# Altium footprint library EButterflyPcbLib.PcbLib: 106 footprints (part 1 of 7)
Each footprint in its own frame and in the unit in brackets; x right, y up, seen from the top. Pads: shape width x height; smd on the part's side, far side on the other; paste and mask are expansions set on the pad; w line width, h text height; cw(c..) or ccw(c..) is an arc to the next point about the centre after c.
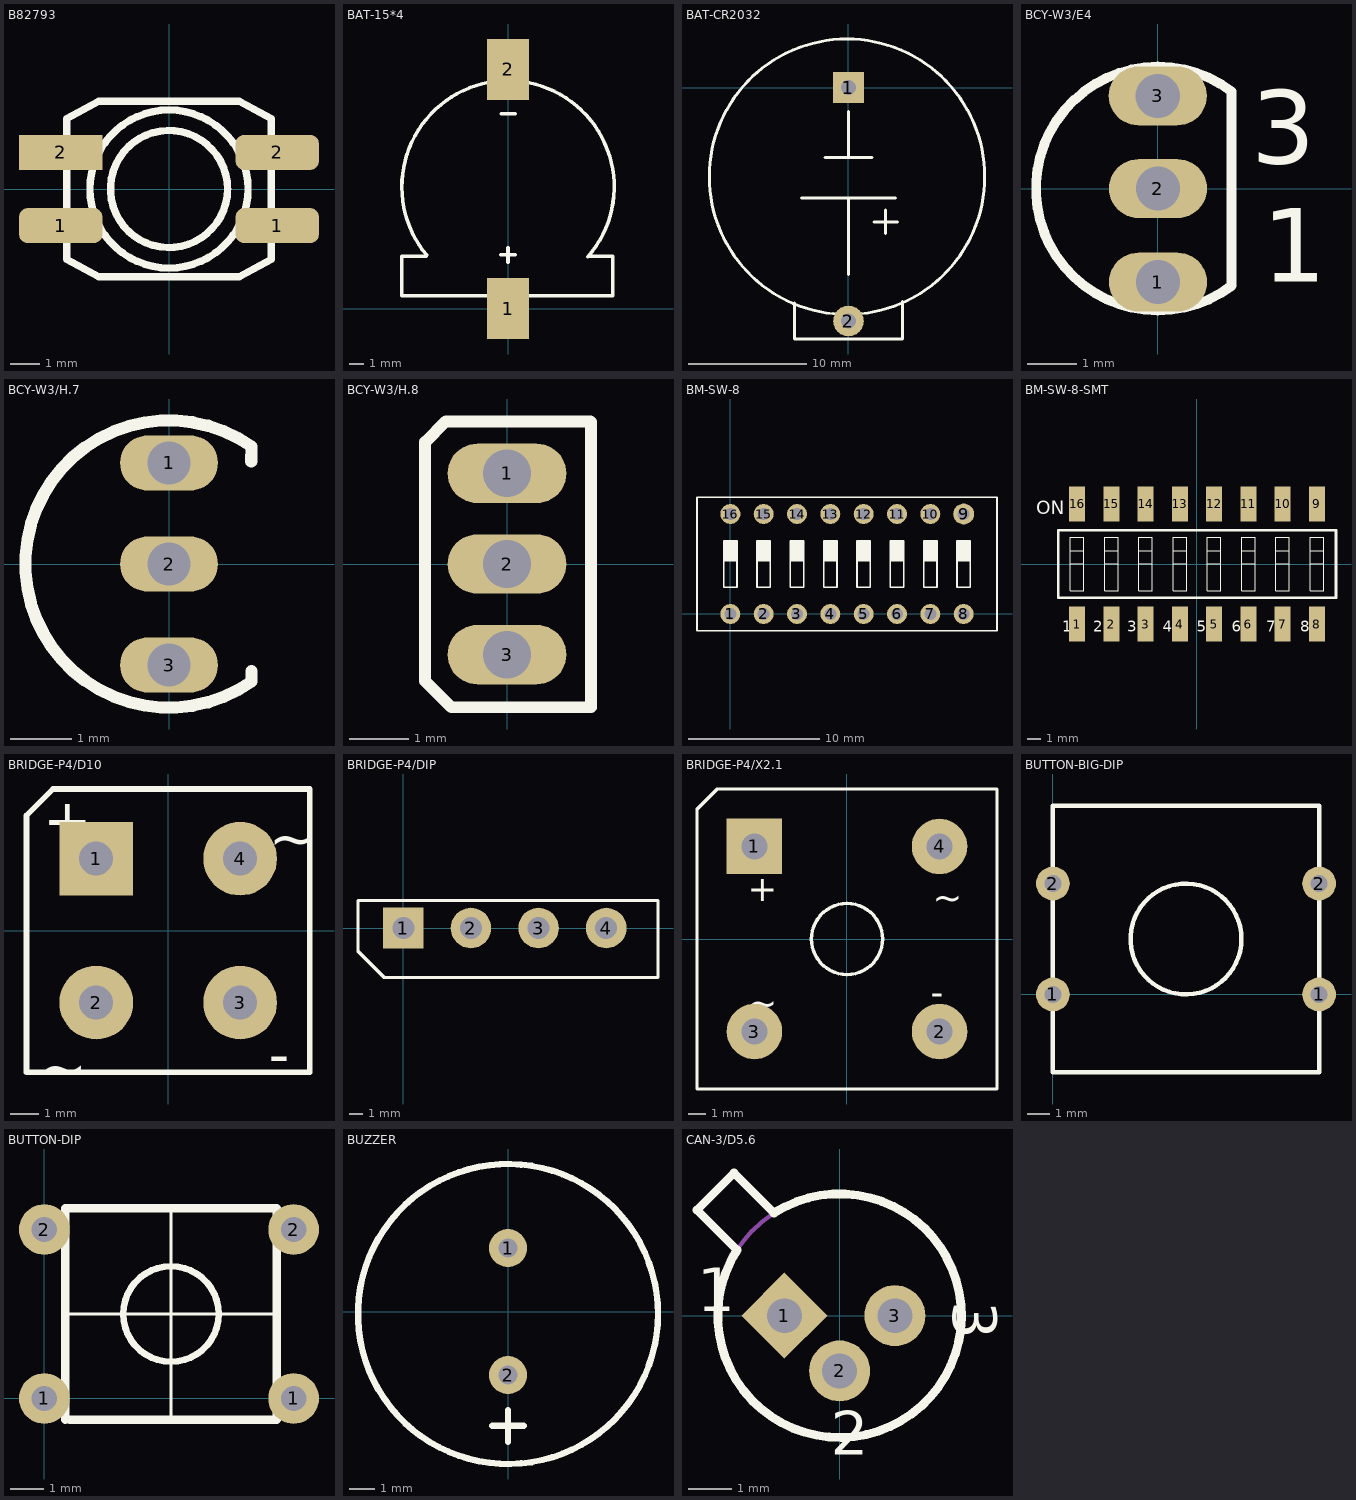
[diagram p0: the footprints below, top view; thin cyan lines are the x and y axes]

## --PIN [mm] "PIN"
3D body "Pin.STEP": height 3, standoff -2, extent -0.746,-0.746 0.746,0.746

## B82793 [mm] "CAN总线滤波器"
height 4.8
pads (4):
  rrect50% 2.85x1.2 smd: 1(-3.7,-1.25) 1(3.7,-1.25) 2(3.7,1.25)
  rect 2.85x1.2 smd: 2(-3.7,1.25)
Top Overlay:
  circle w0.254: c0,0 r2.7
  circle w0.254: c0,0 r2
  lines w0.254: -3.5,-2.4 -2.4,-3 2.4,-3 3.5,-2.4 3.5,2.4 2.4,3 -2.4,3 -3.5,2.4 -3.5,-2.4
3D body: height 4.8, standoff 3, extent -1.999,-1.999 1.999,1.999
3D body: height 3, standoff 2, extent -2.699,-2.699 2.699,2.699
3D body: height 2, standoff 0.5, extent -3.501,-3.001 3.501,3.001

## BAT-15*4 [mm]
pads (2):
  rect 3x4.3 smd: 1(0,0) 2(0,16.9)
Top Overlay:
  lines w0.254: -5.789,3.7 -7.5,3.7 -7.5,0.9 7.4,0.9 7.4,3.7 5.687,3.7 ; -5.731,3.758 cw(c0,8.6) 5.646,3.659 ; -0.508,3.8 0.508,3.8 ; -0.491,13.775 0.525,13.775 ; 0,3.292 0,4.308
3D body: height 2, standoff 0, extent -7.519,0.899 7.519,16.103

## BAT-CR2032 [mm] "CR2032电池座（未加焊）"
pads (2):
  rect 2.6x2.6 hole 1.27: 1(0,0)
  round 2.6 hole 1.27: 2(0,-19.812)
Top Overlay:
  circle w0.254: c-0.127,-7.569 r11.684
  lines w0.254: -4.572,-18.288 -4.572,-21.336 4.572,-21.336 4.572,-18.136 ; -3.988,-9.373 3.988,-9.373 ; -1.981,-5.92 1.981,-5.92 ; 0,-15.875 0,-9.373 ; 0,-5.885 0,-2.032 ; 2.165,-11.399 4.171,-11.399 ; 3.155,-12.389 3.155,-10.383
3D body "CR2032.STEP": height 3.5, standoff -2, extent -11.677,-21.336 11.677,4.064

## BCY-W3/E4 [mm] "TO, Flat Index; 3 In-Line, Axial Leads; Body Dia. 4.5mm; Leads 0.51 x 0.48 mm (max)"
height 6.86
pads (3):
  oval 2x1.2 hole 0.9: 1(0,-1.905) 2(0,0) 3(-0.002,1.888)
Top Overlay:
  lines w0.2: 1.5,-1.98 cw(c0,0) 1.5,1.98 1.5,-1.98
  text "3" at 1.897,0.51 h1.5
  text "1" at 2.127,-1.9 h1.5
3D body: height 3, standoff -2, extent -0.403,1.502 0.403,2.308
3D body: height 3, standoff -2, extent -0.401,-2.296 0.406,-1.49
3D body: height 3, standoff -2, extent -0.413,-0.402 0.393,0.404
3D body: height 7, standoff 3, extent -2.485,-2.495 1.501,2.495

## BCY-W3/H.7 [mm]
pads (3):
  oval 1.6x0.9 hole 0.7: 1(0,1.651) 2(0,0) 3(0,-1.651)
Top Overlay:
  lines w0.2: 1.345,1.677 1.35,1.92 ccw(c0,0) 1.35,-1.92 1.35,-1.75
3D body: height 14, standoff 4, extent -2.348,-2.357 1.351,2.357
3D body: height 4, standoff -2, extent -0.396,1.659 0.396,2.451
3D body: height 4, standoff -2, extent -0.396,-0.396 0.396,0.396
3D body: height 4, standoff -2, extent -0.396,-2.047 0.396,-1.255

## BCY-W3/H.8 [mm]
height 12
pads (3):
  oval 2x1 hole 0.8: 1(0,1.524) 2(0,0) 3(0,-1.524)
Top Overlay:
  lines w0.2: 1.4,2.4 -1.029,2.4 -1.377,2.052 -1.377,-1.97 -0.937,-2.41 1.41,-2.41 1.41,2.39
3D body: height 3, standoff 0, extent -0.413,1.116 0.393,1.922
3D body: height 3, standoff 0, extent -0.388,-0.408 0.418,0.398
3D body: height 3, standoff 0, extent -0.413,-1.907 0.393,-1.1
3D body: height 12, standoff 3, extent -1.397,-2.388 1.422,2.413

## BM-SW-8 [mil]
pads (16):
  round 60 hole 36: 1(0,0) 2(100,0) 3(200,0) 4(300,0) 5(400,0) 6(500,0) 7(600,0) 8(700,0) 10(600,300) 11(500,300) 12(400,300) 13(300,300) 14(200,300) 15(100,300) 16(0,300)
  round 62.99 hole 36: 9(700,300)
Top Overlay:
  rectangle: 580,160 620,220
  rectangle: 680,160 720,220
  rectangle: 280,160 320,220
  rectangle: 380,160 420,220
  rectangle: 480,160 520,220
  rectangle: 580,160 620,220
  rectangle: -20,160 20,220
  rectangle: 80,160 120,220
  rectangle: 180,160 220,220
  rectangle: 280,160 320,220
  lines w5: -20,160 20,160 ; 80,160 120,160 ; 180,160 220,160 ; 200,-50 700,-50 ; 200,350 700,350 ; 380,160 420,160 ; 400,-50 -100,-50 -100,350 400,350 ; 480,160 520,160 ; 500,-50 800,-50 800,350 500,350 ; 680,160 720,160 ; 280,80 280,220 ; 280,80 320,80 ; 280,80 280,220 ; 280,80 320,80 ; 280,220 320,220 ; 280,220 320,220 ; 320,80 320,220 ; 320,80 320,220 ; 580,80 580,220 ; 580,80 620,80 ; 580,80 580,220 ; 580,80 620,80 ; 580,220 620,220 ; 580,220 620,220 ; 620,80 620,220 ; 620,80 620,220 ; 680,80 680,220 ; 680,80 720,80 ; 680,80 680,220 ; 680,80 720,80 ; 680,220 720,220 ; 680,220 720,220 ; 720,80 720,220 ; 720,80 720,220 ; -20,80 -20,220 20,220 20,80 -20,80 ; 80,80 80,220 120,220 120,80 80,80 ; 180,80 180,220 220,220 220,80 180,80 ; 280,160 320,160 280,160 ; 380,80 380,220 420,220 420,80 380,80 ; 480,80 480,220 520,220 520,80 480,80 ; 580,160 620,160 580,160
3D body "SWITCH_DIP8.step": height 275.59, standoff 0, extent -83.07,-47 783.07,346.7

## BM-SW-8-SMT [mm]
pads (16):
  rect 1.2x2.6 smd: 1(-8.89,-4.45) 2(-6.35,-4.45) 3(-3.81,-4.45) 4(-1.27,-4.45) 5(1.27,-4.45) 6(3.81,-4.45) 7(6.35,-4.45) 8(8.89,-4.45) 9(8.89,4.45) 10(6.35,4.45) 11(3.81,4.45) 12(1.27,4.45) 13(-1.27,4.45) 14(-3.81,4.45) 15(-6.35,4.45) 16(-8.89,4.45)
Top Overlay:
  lines w0.025: -9.39,0 -8.39,0 ; -9.39,1 -8.39,1 ; -6.85,0 -5.85,0 ; -6.85,1 -5.85,1 ; -4.31,0 -3.31,0 ; -4.31,1 -3.31,1 ; -1.77,0 -0.77,0 ; -1.77,1 -0.77,1 ; 0.77,0 1.77,0 ; 0.77,1 1.77,1 ; 3.31,0 4.31,0 ; 3.31,1 4.31,1 ; 5.85,0 6.85,0 ; 5.85,1 6.85,1 ; 8.39,0 9.39,0 ; 8.39,1 9.39,1 ; -9.39,-2 -8.39,-2 -8.39,2 -9.39,2 -9.39,-2 ; -6.85,-2 -5.85,-2 -5.85,2 -6.85,2 -6.85,-2 ; -4.31,-2 -3.31,-2 -3.31,2 -4.31,2 -4.31,-2 ; -1.77,-2 -0.77,-2 -0.77,2 -1.77,2 -1.77,-2 ; 0.77,-2 1.77,-2 1.77,2 0.77,2 0.77,-2 ; 3.31,-2 4.31,-2 4.31,2 3.31,2 3.31,-2 ; 5.85,-2 6.85,-2 6.85,2 5.85,2 5.85,-2 ; 8.39,-2 9.39,-2 9.39,2 8.39,2 8.39,-2
  lines w0.2: -10.29,-2.5 10.31,-2.5 10.31,2.5 -10.29,2.5 -10.29,-2.5
  text "8" at 7.659,-5.032 h0.8
  text "7" at 5.119,-5.032 h0.8
  text "ON" at -11.938,3.678 h1
  text "1" at -10.006,-5.032 h0.8
  text "2" at -7.681,-5.032 h0.8
  text "3" at -5.181,-5.032 h0.8
  text "4" at -2.556,-5.032 h0.8
  text "5" at -0.031,-5.032 h0.8
  text "6" at 2.569,-5.032 h0.8
3D body "SWITCH_DIP8.step": height 7, standoff 0, extent -11.056,-5.057 10.944,4.943

## BRIDGE-P4/D10 [mm]
pads (4):
  rect 2.6x2.6 hole 1.2: 1(-2.54,2.54)
  round 2.6 hole 1.2: 2(-2.54,-2.54) 3(2.54,-2.54) 4(2.54,2.54)
Top Overlay:
  lines w0.2: -5,-5 -5,4.064 ; -5,-5 5,-5 ; -5,-5 5,-5 ; -5,-5 -5,4.064 ; -5,4.064 -4.064,5 ; -5,4.064 -4.064,5 ; -4.064,5 5,5 ; -4.064,5 5,5 ; 5,-5 5,5 ; 5,-5 5,5
  text "+" at -4.41,3.164 h1.5
  text "-" at 3.556,-5.08 h1.5
  text "~" at -4.572,-5.588 h1.5
  text "~" at 3.556,2.54 h1.5
3D body "Pin.STEP": height 3, standoff -2, extent -3.286,-3.286 -1.794,-1.794
3D body "Pin.STEP": height 3, standoff -2, extent 1.794,1.794 3.286,3.286
3D body "Pin.STEP": height 3, standoff -2, extent 1.794,-3.286 3.286,-1.794
3D body "Pin.STEP": height 3, standoff -2, extent -3.286,1.794 -1.794,3.286
3D body: height 3, standoff 1, extent -5.08,-5.08 5.08,5.08

## BRIDGE-P4/DIP [mil]
pads (4):
  rect 120x120 hole 65: 1(0,0)
  round 120 hole 65: 2(200,0) 3(400,0) 4(600,0)
Top Overlay:
  circle w10: c0,0 r53.85
  lines w9.84: 753.13,-145.87 753.13,81.42
  lines w10: 752.76,-146.24 -56,-146.24 -134,-68.24 -134,81.42 753.13,81.42
3D body "Pin.STEP": height 118.11, standoff -78.74, extent 570.63,-29.37 629.38,29.39
3D body "Pin.STEP": height 118.11, standoff -78.74, extent 380.63,-39.37 439.38,19.39
3D body "Pin.STEP": height 118.11, standoff -78.74, extent 170.63,-29.37 229.38,29.39
3D body "Pin.STEP": height 118.11, standoff -78.74, extent -19.37,-29.37 39.38,29.39
3D body: height 472.44, standoff 59.06, extent -135,-148 754,81

## BRIDGE-P4/X2.1 [mm]
pads (4):
  rect 3.2x3.2 hole 1.5: 1(-5.335,5.335)
  round 3.2 hole 1.5: 2(5.335,-5.335) 3(-5.335,-5.335) 4(5.335,5.335)
Top Overlay:
  circle w0.2: c0,0 r2.05
  lines w0.2: -8.65,-8.65 -8.65,7.474 -7.474,8.65 8.65,8.65 8.65,-8.65 -8.65,-8.65
  text "+" at -5.723,2.167 h1.5
  text "-" at 4.825,-3.809 h1.5
  text "~" at 4.945,1.659 h1.5
  text "~" at -5.723,-4.437 h1.5
3D body: height 4, standoff 1, extent -8.651,-8.651 8.651,8.651
3D body "Pin.STEP": height 3, standoff -2, extent -6.081,4.589 -4.589,6.081
3D body "Pin.STEP": height 3, standoff -2, extent 4.589,4.589 6.081,6.081
3D body "Pin.STEP": height 3, standoff -2, extent -6.081,-6.081 -4.589,-4.589
3D body "Pin.STEP": height 3, standoff -2, extent 4.589,-6.081 6.081,-4.589

## BUTTON-BIG-DIP [mil]
height 236.22
pads (4):
  round 60 hole 30: 1(0,0) 1(472.44,0) 2(0,196.85) 2(472.44,196.85)
Top Overlay:
  circle w7.87: c236.22,98.43 r98.43
  lines w8: 0,196.85 0,236.22 ; 0,-137.8 472.44,-137.8 472.44,334.65 0,334.65 0,-137.8
3D body: height 236.22, standoff 157.48, extent 137.82,0.02 334.63,196.83
3D body: height 157.48, standoff 78.74, extent 0.02,-137.78 472.42,334.63
3D body: height 78.74, standoff -78.74, extent -16.6,180.25 14.6,211.45
3D body: height 78.74, standoff -78.74, extent -16.6,-16.6 14.6,14.6
3D body: height 78.74, standoff -78.74, extent 455.84,180.25 487.04,211.45
3D body: height 78.74, standoff -78.74, extent 455.84,-16.6 487.04,14.6

## BUTTON-DIP [mil]
height 236.22
pads (4):
  round 60 hole 30: 1(0,0) 1(295.28,0) 2(0,200) 2(295.28,200)
Top Overlay:
  circle w7.87: c150,100 r56.57
  lines w3.94: 25,100 275,100 ; 150,-25 150,225
  lines w10: 25,-25 25,225 275,225 275,-25 30,-25
3D body "Pin.STEP": height 118.11, standoff -78.74, extent 265.9,-29.37 324.66,29.39
3D body "Pin.STEP": height 118.11, standoff -78.74, extent -29.37,-29.37 29.38,29.39
3D body "Pin.STEP": height 118.11, standoff -78.74, extent 265.9,170.63 324.66,229.39
3D body "Pin.STEP": height 118.11, standoff -78.74, extent -29.37,170.63 29.38,229.39
3D body: height 181.1, standoff 78.74, extent 149.69,94.69 206.22,151.22
3D body: height 181.1, standoff 78.74, extent 98.78,99.69 155.31,156.22
3D body: height 78.74, standoff 0, extent 20,-30 280,230
3D body: height 181.1, standoff 78.74, extent 93.78,43.78 150.31,100.31
3D body: height 181.1, standoff 78.74, extent 150.02,43.45 206.55,99.98

## BUZZER [mil]
height 314.96
pads (2):
  round 60 hole 30: 1(0,100) 2(0,-100)
Top Overlay:
  circle w10: c0,-3.78 r236.22
  lines w10: -25,-180 25,-180 ; 0,-205 0,-155
3D body "Buzzer.STEP": height 236.22, standoff -78.74, extent -236.25,-236.25 236.27,236.27

## CAN-3/D5.6 [mm]
pads (3):
  rect 1.4x1.4 hole 0.8 rot 45: 1(-1.27,0)
  round 1.4 hole 0.8: 2(0,-1.27) 3(1.27,0)
Top Overlay:
  lines w0.2: -3.277,2.429 -2.429,3.277 -1.51,2.358 cw(c0,0) -2.358,1.51 -3.277,2.429
  text "1" at -3.277,0.102 h1
  text "2" at -0.203,-3.2 h1
  text "3" at 2.616,0.33 h1
Mechanical 1:
  circle w0.1: c0,0 r2.8
3D body: height 14, standoff 4, extent -2.799,-2.799 2.799,2.799
3D body: height 4, standoff -2, extent -0.422,-1.666 0.371,-0.874
3D body: height 4, standoff -2, extent 0.874,-0.396 1.666,0.396
3D body: height 4, standoff -2, extent -1.675,-0.396 -0.882,0.397